# Altium footprint library Transistor.PcbLib: 58 footprints (part 3 of 4)
Each footprint in its own frame and in the unit in brackets; x right, y up, seen from the top. Pads: shape width x height; smd on the part's side, far side on the other; paste and mask are expansions set on the pad; w line width, h text height; cw(c..) or ccw(c..) is an arc to the next point about the centre after c.
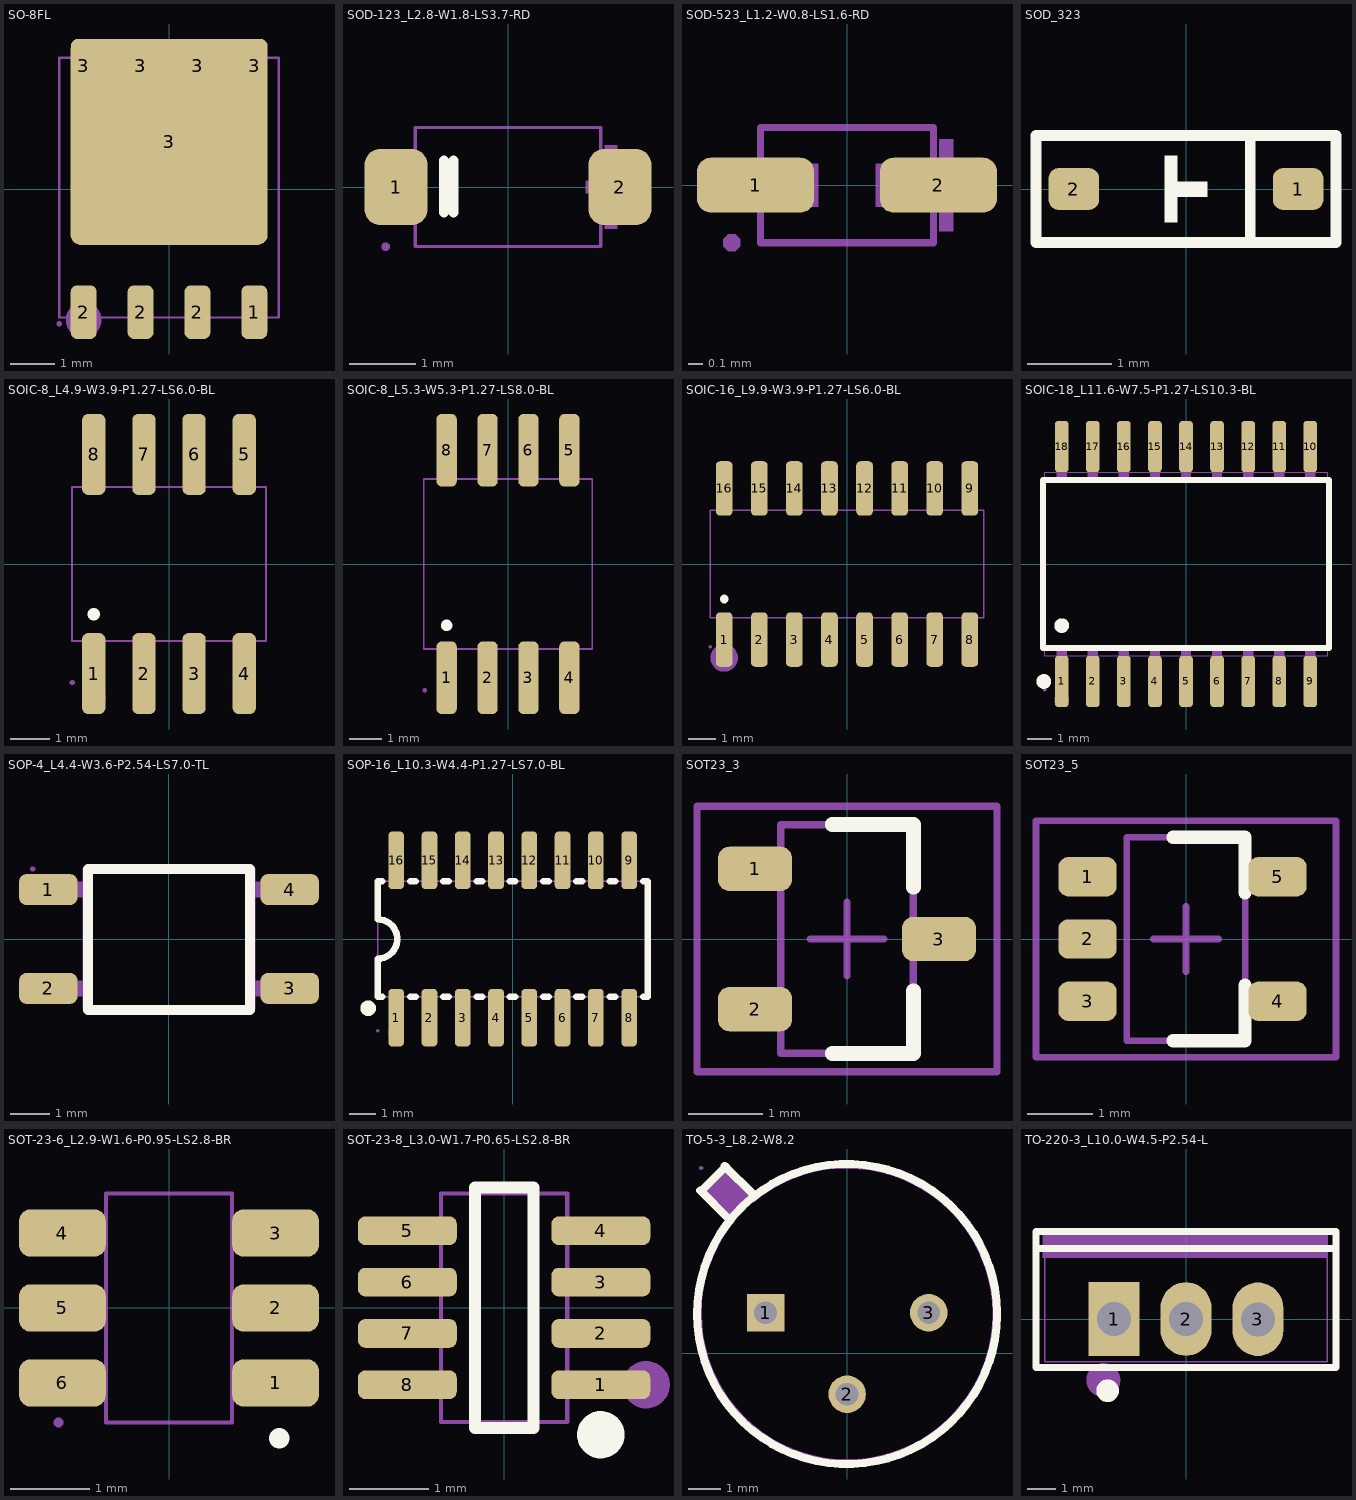
[diagram p2: the footprints below, top view; thin cyan lines are the x and y axes]

## SO-8FL [mm]
pads (9):
  rrect50% 0.58x1.2 smd mask+0.051: 1(1.903,-2.75) 2(-1.907,-2.75) 2(-0.637,-2.75) 2(0.633,-2.75) 3(-1.902,2.75) 3(-0.632,2.75) 3(0.638,2.75) 3(1.907,2.75)
  rrect10% 4.4x4.6 smd mask+0.051: 3(0,1.05)
Mechanical 6:
  circle w0.4: c-1.907,-2.921 r0.2
Mechanical 15:
  region: -2.393,-3.01 -2.393,-2.985 -2.428,-2.95 -2.477,-2.95 -2.512,-2.985 -2.512,-3.01 -2.512,-3.035 -2.477,-3.07 -2.428,-3.07 -2.393,-3.035 -2.393,-3.01
  region: -2.002,2.43 1.998,2.43 1.998,-1.07 -2.002,-1.07
  region: 1.707,3.075 2.107,3.075 2.107,2.425 1.707,2.425
  region: 0.438,3.075 0.838,3.075 0.838,2.425 0.438,2.425
  region: -0.832,3.075 -0.432,3.075 -0.432,2.425 -0.832,2.425
  region: -2.102,3.075 -1.702,3.075 -1.702,2.425 -2.102,2.425
  region: 2.103,-3.01 1.703,-3.01 1.703,-2.36 2.103,-2.36
  region: 0.833,-3.01 0.433,-3.01 0.433,-2.36 0.833,-2.36
  region: -0.437,-3.01 -0.837,-3.01 -0.837,-2.36 -0.437,-2.36
  region: -1.707,-3.01 -2.107,-3.01 -2.107,-2.36 -1.707,-2.36
  lines w0.051: -2.452,-2.87 2.448,-2.87 2.448,2.93 -2.452,2.93 -2.452,-2.87
3D body "dfn2.step": height 0.99, standoff 0.03, extent -2.452,-2.995 2.548,3.055

## SOD-123_L2.8-W1.8-LS3.7-RD [mm]
pads (2):
  rrect50% 0.95x1.15 smd: 1(-1.692,0) 2(1.692,0)
Top Overlay:
  lines w0.152: -0.97,-0.381 -0.97,0.404 ; -0.827,-0.381 -0.827,0.404
Mechanical 6:
  region: 1.651,0.635 1.651,-0.629 1.461,-0.629 1.461,0.635
  region: 1.935,0.098 1.935,-0.092 1.177,-0.092 1.177,0.098
  region: -2.03,0.095 -2.03,-0.095 -1.272,-0.095 -1.272,0.095
Mechanical 15:
  region: 1.851,-0.465 1.851,0.465 1.301,0.465 1.301,-0.465
  region: -1.851,-0.465 -1.851,0.465 -1.301,0.465 -1.301,-0.465
  region: -1.79,-0.9 -1.79,-0.875 -1.826,-0.84 -1.875,-0.84 -1.91,-0.875 -1.91,-0.9 -1.91,-0.925 -1.875,-0.96 -1.826,-0.96 -1.79,-0.925 -1.79,-0.9
  lines w0.051: -1.4,-0.9 1.4,-0.9 1.4,0.9 -1.4,0.9 -1.4,-0.9

## SOD-523_L1.2-W0.8-LS1.6-RD [mil]
pads (2):
  rrect50% 32x15 smd mask+2: 1(-25,0) 2(25,0)
Mechanical 6:
  region: -34.92,2.17 -34.92,-1.61 -19.8,-1.61 -19.8,2.17
  region: 34.65,1.89 34.65,-1.89 19.53,-1.89 19.53,1.89
  region: 28.98,12.6 28.98,-12.6 25.2,-12.6 25.2,12.6
Mechanical 15:
  region: -31.5,-5.91 -31.5,5.91 -7.87,5.91 -7.87,-5.91
  region: 31.5,-5.91 31.5,5.91 7.87,5.91 7.87,-5.91
  region: -29.13,-15.75 -29.13,-14.77 -30.52,-13.39 -32.47,-13.39 -33.86,-14.77 -33.86,-15.75 -33.86,-16.73 -32.47,-18.11 -30.52,-18.11 -29.13,-16.73 -29.13,-15.75
  lines w2: -23.62,-15.75 -23.62,15.75 23.62,15.75 23.62,-15.75 -23.62,-15.75
3D body "SOD-523.step": height 29.92, standoff 0, extent -33.46,-17.72 33.46,17.72

## SOD_323 [mm] "SOD_323"
height 4.3
pads (2):
  rrect50% 0.6x0.5 smd: 1(1.329,0) 2(-1.329,0)
Top Overlay:
  region: -0.254,0.394 -0.102,0.394 -0.102,0.089 0.254,0.089 0.254,-0.089 -0.102,-0.089 -0.102,-0.394 -0.254,-0.394
  lines w0.127: 0.762,-0.635 0.762,0.635 ; -1.778,-0.635 1.778,-0.635 1.778,0.635 -1.778,0.635 -1.778,-0.635
3D body "SW3dPS-SOD-323.STEP": height 1.15, standoff 0.05, extent -1.3,-0.675 1.3,0.675

## SOIC-8_L4.9-W3.9-P1.27-LS6.0-BL [mm]
pads (8):
  rrect50% 0.588x2.045 smd paste+0 mask+0.051: 1(-1.905,-2.772) 2(-0.635,-2.772) 3(0.635,-2.772) 4(1.905,-2.772) 5(1.905,2.772) 6(0.635,2.772) 7(-0.635,2.772) 8(-1.905,2.772)
Top Overlay:
  circle w0.3: c-1.905,-1.27 r0.007
Mechanical 6:
  circle w0.3: c-1.905,-3.4 r0.15
Mechanical 15:
  region: -2.39,-3 -2.39,-2.975 -2.425,-2.94 -2.475,-2.94 -2.51,-2.975 -2.51,-3 -2.51,-3.025 -2.475,-3.06 -2.425,-3.06 -2.39,-3.025 -2.39,-3
  region: -2.115,-3 -2.115,-2.165 -1.695,-2.165 -1.695,-3
  region: -2.115,-2.175 -2.115,-1.94 -1.695,-1.94 -1.695,-2.175
  region: -0.845,-3 -0.845,-2.165 -0.425,-2.165 -0.425,-3
  region: -0.845,-2.175 -0.845,-1.94 -0.425,-1.94 -0.425,-2.175
  region: 0.425,-3 0.425,-2.165 0.845,-2.165 0.845,-3
  region: 0.425,-2.175 0.425,-1.94 0.845,-1.94 0.845,-2.175
  region: 1.695,-3 1.695,-2.165 2.115,-2.165 2.115,-3
  region: 1.695,-2.175 1.695,-1.94 2.115,-1.94 2.115,-2.175
  region: -2.115,3 -2.115,2.165 -1.695,2.165 -1.695,3
  region: -2.115,2.175 -2.115,1.94 -1.695,1.94 -1.695,2.175
  region: -0.845,3 -0.845,2.165 -0.425,2.165 -0.425,3
  region: -0.845,2.175 -0.845,1.94 -0.425,1.94 -0.425,2.175
  region: 0.425,3 0.425,2.165 0.845,2.165 0.845,3
  region: 0.425,2.175 0.425,1.94 0.845,1.94 0.845,2.175
  region: 1.695,3 1.695,2.165 2.115,2.165 2.115,3
  region: 1.695,2.175 1.695,1.94 2.115,1.94 2.115,2.175
  lines w0.051: -2.45,-1.95 -2.45,1.95 2.45,1.95 2.45,-1.95 -2.45,-1.95
3D body "SOIC8.STEP": height 1.5, standoff 0, extent -2.45,-2.95 2.45,2.95

## SOIC-8_L5.3-W5.3-P1.27-LS8.0-BL [mm]
pads (8):
  rrect50% 0.63x2.25 smd: 1(-1.905,-3.53) 2(-0.635,-3.53) 3(0.635,-3.53) 4(1.905,-3.53) 5(1.905,3.53) 6(0.635,3.53) 7(-0.635,3.53) 8(-1.905,3.53)
Top Overlay:
  circle w0.3: c-1.905,-1.905 r0.027
Mechanical 6:
  circle w0.3: c-1.905,-4.35 r0.15
Mechanical 15:
  region: 1.68,3.31 1.68,2.595 2.13,2.595 2.13,3.31
  region: 1.68,3.95 1.68,3.3 2.13,3.3 2.13,3.95
  region: 0.41,3.31 0.41,2.595 0.86,2.595 0.86,3.31
  region: 0.41,3.95 0.41,3.3 0.86,3.3 0.86,3.95
  region: -0.86,3.31 -0.86,2.595 -0.41,2.595 -0.41,3.31
  region: -0.86,3.95 -0.86,3.3 -0.41,3.3 -0.41,3.95
  region: -2.13,3.31 -2.13,2.595 -1.68,2.595 -1.68,3.31
  region: -2.13,3.95 -2.13,3.3 -1.68,3.3 -1.68,3.95
  region: 1.68,-3.31 1.68,-2.595 2.13,-2.595 2.13,-3.31
  region: 1.68,-3.95 1.68,-3.3 2.13,-3.3 2.13,-3.95
  region: 0.41,-3.31 0.41,-2.595 0.86,-2.595 0.86,-3.31
  region: 0.41,-3.95 0.41,-3.3 0.86,-3.3 0.86,-3.95
  region: -0.86,-3.31 -0.86,-2.595 -0.41,-2.595 -0.41,-3.31
  region: -0.86,-3.95 -0.86,-3.3 -0.41,-3.3 -0.41,-3.95
  region: -2.13,-3.31 -2.13,-2.595 -1.68,-2.595 -1.68,-3.31
  region: -2.13,-3.95 -2.13,-3.3 -1.68,-3.3 -1.68,-3.95
  region: -2.525,-3.92 -2.525,-3.895 -2.56,-3.86 -2.61,-3.86 -2.645,-3.895 -2.645,-3.92 -2.645,-3.945 -2.61,-3.98 -2.56,-3.98 -2.525,-3.945 -2.525,-3.92
  lines w0.051: -2.615,-2.64 2.615,-2.64 2.615,2.64 -2.615,2.64 -2.615,-2.64

## SOIC-16_L9.9-W3.9-P1.27-LS6.0-BL [mm]
pads (16):
  rrect50% 0.602x1.971 smd: 1(-4.445,-2.736) 2(-3.175,-2.736) 3(-1.905,-2.736) 4(-0.635,-2.736) 5(0.635,-2.736) 6(1.905,-2.736) 7(3.175,-2.736) 8(4.445,-2.736) 9(4.445,2.736) 10(3.175,2.736) 11(1.905,2.736) 12(0.635,2.736) 13(-0.635,2.736) 14(-1.905,2.736) 15(-3.175,2.736) 16(-4.445,2.736)
Top Overlay:
  circle w0.3: c-4.445,-1.27 r0.007
Mechanical 6:
  circle w0.5: c-4.445,-3.4 r0.25
Mechanical 15:
  drawing of 37 lines, arcs and shapes, not listed

## SOIC-18_L11.6-W7.5-P1.27-LS10.3-BL [mm]
pads (18):
  rrect50% 0.56x2.1 smd paste+0 mask+0.051: 1(-5.08,-4.8) 2(-3.81,-4.8) 3(-2.54,-4.8) 4(-1.27,-4.8) 5(0,-4.8) 6(1.27,-4.8) 7(2.54,-4.8) 8(3.81,-4.8) 9(5.08,-4.8) 10(5.08,4.8) 11(3.81,4.8) 12(2.54,4.8) 13(1.27,4.8) 14(0,4.8) 15(-1.27,4.8) 16(-2.54,4.8) 17(-3.81,4.8) 18(-5.08,4.8)
Top Overlay:
  circle w0.3: c-5.812,-4.8 r0.15
  circle w0.3: c-5.08,-2.519 r0.15
  lines w0.254: -5.842,-3.429 5.842,-3.429 5.842,3.429 -5.842,3.429 -5.842,-3.429
Mechanical 6:
  circle w0.3: c-5.08,-5.55 r0.15
Mechanical 15:
  drawing of 41 lines, arcs and shapes, not listed

## SOP-4_L4.4-W3.6-P2.54-LS7.0-TL [mm]
pads (4):
  rrect50% 1.508x0.8 smd paste+0 mask+0.051: 1(-3.1,1.27) 2(-3.1,-1.27) 3(3.1,-1.27) 4(3.1,1.27)
Top Overlay:
  lines w0.254: -2.08,-1.82 2.08,-1.82 2.08,1.8 -2.08,1.8 -2.08,-1.82
Mechanical 6:
  circle w0.254: c-3.5,1.28 r0.127
Mechanical 15:
  region: -3.44,1.8 -3.44,1.825 -3.475,1.86 -3.525,1.86 -3.56,1.825 -3.56,1.8 -3.56,1.775 -3.525,1.74 -3.475,1.74 -3.44,1.775 -3.44,1.8
  region: -3.01,-1.47 -3.01,-1.07 -2.19,-1.07 -2.19,-1.47
  region: -3.5,-1.47 -3.5,-1.07 -3,-1.07 -3,-1.47
  region: -3.01,1.07 -3.01,1.47 -2.19,1.47 -2.19,1.07
  region: -3.5,1.07 -3.5,1.47 -3,1.47 -3,1.07
  region: 2.19,1.07 2.19,1.47 3.01,1.47 3.01,1.07
  region: 3,1.07 3,1.47 3.5,1.47 3.5,1.07
  region: 2.19,-1.47 2.19,-1.07 3.01,-1.07 3.01,-1.47
  region: 3,-1.47 3,-1.07 3.5,-1.07 3.5,-1.47
  lines w0.051: -2.2,-1.8 2.2,-1.8 2.2,1.8 -2.2,1.8 -2.2,-1.8

## SOP-16_L10.3-W4.4-P1.27-LS7.0-BL [mm]
pads (16):
  rrect50% 0.6x2.2 smd paste+0 mask+0.051: 1(-4.445,-3) 2(-3.175,-3) 3(-1.905,-3) 4(-0.635,-3) 5(0.635,-3) 6(1.905,-3) 7(3.175,-3) 8(4.445,-3) 9(4.445,3) 10(3.175,3) 11(1.905,3) 12(0.635,3) 13(-0.635,3) 14(-1.905,3) 15(-3.175,3) 16(-4.445,3)
Top Overlay:
  lines w0.254: -4.976,-2.2 -5.15,-2.2 -5.15,-0.75 ccw(c-5.15,-0.001) -5.15,0.75 -5.15,2.2 -4.976,2.2 ; -3.914,-2.2 -3.706,-2.2 ; -3.914,2.2 -3.706,2.2 ; -2.644,-2.2 -2.436,-2.2 ; -2.644,2.2 -2.436,2.2 ; -1.374,-2.2 -1.166,-2.2 ; -1.374,2.2 -1.166,2.2 ; -0.104,-2.2 0.104,-2.2 ; -0.104,2.2 0.104,2.2 ; 1.166,-2.2 1.374,-2.2 ; 1.166,2.2 1.374,2.2 ; 2.436,-2.2 2.644,-2.2 ; 2.436,2.2 2.644,2.2 ; 3.706,-2.2 3.914,-2.2 ; 3.706,2.2 3.914,2.2 ; 4.976,-2.2 5.15,-2.2 5.15,2.2 4.976,2.2
  lines w0.3: -5.513,-2.492 ccw(c-5.512,-2.642) -5.51,-2.492
Mechanical 6:
  circle w0.3: c-4.445,-3.582 r0.15
Mechanical 15:
  drawing of 37 lines, arcs and shapes, not listed

## SOT23_3 [mm] "SOT23, 3-Leads, Body 3.1x3.0mm (max), Pitch 0.95mm, IPC Medium Density"
height 1.2
pads (3):
  rrect50% 1x0.6 smd: 1(-1.246,0.95) 2(-1.246,-0.95) 3(1.246,0)
Top Overlay:
  lines w0.2: -0.2,-1.55 0.9,-1.55 0.9,-0.7 ; -0.2,1.55 0.9,1.55 0.9,0.7
Mechanical 13:
  lines w0.1: -0.9,-1.55 -0.9,1.55 0.9,1.55 0.9,-1.55 -0.9,-1.55
Mechanical 15:
  lines w0.1: -0.5,0 0.5,0 ; 0,-0.5 0,0.5 ; -2.032,-1.8 -2.032,1.8 2.032,1.8 2.032,-1.8 -2.032,-1.8
3D body "SOT-23-3.stp": height 1.2, standoff 0, extent -1.298,-1.45 1.502,1.45

## SOT23_5 [mm] "SOT23_5"
pads (5):
  rrect50% 0.889x0.6 smd: 1(-1.5,0.95) 2(-1.5,0) 3(-1.5,-0.95) 4(1.396,-0.95) 5(1.396,0.95)
Top Overlay:
  lines w0.2: -0.2,-1.55 0.9,-1.55 0.9,-0.7 ; -0.2,1.55 0.9,1.55 0.9,0.7
Mechanical 13:
  lines w0.1: -0.9,-1.55 0.9,-1.55 0.9,1.55 -0.9,1.55 -0.9,-1.55
Mechanical 15:
  lines w0.1: -0.5,0 0.5,0 ; 0,-0.5 0,0.5 ; -2.286,-1.8 2.286,-1.8 2.286,1.8 -2.286,1.8 -2.286,-1.8
3D body "PCB1.stp": height 1.2, standoff 0, extent -1.476,-1.452 1.324,1.448

## SOT-23-6_L2.9-W1.6-P0.95-LS2.8-BR [mm]
pads (6):
  rrect50% 1.1x0.6 smd paste+0 mask+0.051: 1(1.35,-0.95) 2(1.35,0) 3(1.35,0.95) 4(-1.35,0.95) 5(-1.35,0) 6(-1.35,-0.95)
Top Overlay:
  circle w0.254: c1.397,-1.651 r0.001
Mechanical 6:
  circle w0.2: c1.4,-0.95 r0.1
Mechanical 15:
  region: 0.935,1.165 0.935,0.735 0.79,0.735 0.79,1.165
  region: 0.935,0.215 0.935,-0.215 0.79,-0.215 0.79,0.215
  region: 0.935,-0.735 0.935,-1.165 0.79,-1.165 0.79,-0.735
  region: -0.935,-1.165 -0.935,-0.735 -0.79,-0.735 -0.79,-1.165
  region: -0.935,-0.215 -0.935,0.215 -0.79,0.215 -0.79,-0.215
  region: 0.925,-1.165 0.925,-0.735 1.4,-0.735 1.4,-1.165
  region: 0.925,-0.215 0.925,0.215 1.4,0.215 1.4,-0.215
  region: 0.925,0.735 0.925,1.165 1.4,1.165 1.4,0.735
  region: -0.935,0.735 -0.935,1.165 -0.79,1.165 -0.79,0.735
  region: -0.925,0.735 -0.925,1.165 -1.4,1.165 -1.4,0.735
  region: -0.925,-0.215 -0.925,0.215 -1.4,0.215 -1.4,-0.215
  region: -0.925,-1.165 -0.925,-0.735 -1.4,-0.735 -1.4,-1.165
  region: -1.34,-1.45 -1.34,-1.425 -1.375,-1.39 -1.425,-1.39 -1.46,-1.425 -1.46,-1.45 -1.46,-1.475 -1.425,-1.51 -1.375,-1.51 -1.34,-1.475 -1.34,-1.45
  lines w0.051: -0.8,-1.45 0.8,-1.45 0.8,1.45 -0.8,1.45 -0.8,-1.45
3D body "sot-23-6.stp": height 1.07, standoff -0.04, extent -1.422,-1.461 1.422,1.461

## SOT-23-8_L3.0-W1.7-P0.65-LS2.8-BR [mm]
pads (8):
  rrect50% 1.252x0.364 smd paste+0 mask+0.051: 1(1.226,-0.975) 2(1.226,-0.325) 3(1.226,0.325) 4(1.226,0.975) 5(-1.226,0.975) 6(-1.226,0.325) 7(-1.226,-0.325) 8(-1.226,-0.975)
Top Overlay:
  circle w0.3: c1.226,-1.609 r0.15
  lines w0.152: -0.371,-1.526 0.371,-1.526 0.371,1.526 -0.371,1.526 -0.371,-1.526
Mechanical 6:
  circle w0.3: c1.8,-0.975 r0.15
Mechanical 15:
  region: 1.46,-1.45 1.46,-1.425 1.425,-1.39 1.375,-1.39 1.34,-1.425 1.34,-1.45 1.34,-1.475 1.375,-1.51 1.425,-1.51 1.46,-1.475 1.46,-1.45
  region: 1.4,-1.125 0.95,-1.125 0.95,-0.825 1.4,-0.825
  region: 0.96,-1.125 0.79,-1.125 0.79,-0.825 0.96,-0.825
  region: 1.4,-0.475 0.95,-0.475 0.95,-0.175 1.4,-0.175
  region: 0.96,-0.475 0.79,-0.475 0.79,-0.175 0.96,-0.175
  region: 1.4,0.175 0.95,0.175 0.95,0.475 1.4,0.475
  region: 0.96,0.175 0.79,0.175 0.79,0.475 0.96,0.475
  region: 1.4,0.825 0.95,0.825 0.95,1.125 1.4,1.125
  region: 0.96,0.825 0.79,0.825 0.79,1.125 0.96,1.125
  region: -1.4,-1.125 -0.95,-1.125 -0.95,-0.825 -1.4,-0.825
  region: -0.96,-1.125 -0.79,-1.125 -0.79,-0.825 -0.96,-0.825
  region: -1.4,-0.475 -0.95,-0.475 -0.95,-0.175 -1.4,-0.175
  region: -0.96,-0.475 -0.79,-0.475 -0.79,-0.175 -0.96,-0.175
  region: -1.4,0.175 -0.95,0.175 -0.95,0.475 -1.4,0.475
  region: -0.96,0.175 -0.79,0.175 -0.79,0.475 -0.96,0.475
  region: -1.4,0.825 -0.95,0.825 -0.95,1.125 -1.4,1.125
  region: -0.96,0.825 -0.79,0.825 -0.79,1.125 -0.96,1.125
  lines w0.051: -0.8,-1.45 0.8,-1.45 0.8,1.45 -0.8,1.45 -0.8,-1.45

## TO-5-3_L8.2-W8.2 [mil]
pads (3):
  rect 46x46 hole 28: 1(-100,50)
  round 46 hole 28: 2(0,-50) 3(100,50)
Top Overlay:
  lines w10: -180.1,200.1 -145.2,164.8 ; -178.74,199.61 -148.94,229.51 ; -150.3,230 -115,195 ; 183.8,46.8 cw(c-0.19,48.4) 183.8,50
Mechanical 6:
  region: -174.96,200.04 -172.99,202.01 -147.01,227.99 -146.22,227.99 -114.33,196.1 -114.33,195.71 -144.25,165.79
Mechanical 15:
  region: 108.86,50 108.85,51.75 107.49,54.99 105,57.46 101.75,58.8 98.24,58.8 95,57.46 92.51,54.99 91.15,51.75 91.14,50 91.15,48.24 92.51,45.01 95,42.54 98.25,41.2 101.76,41.2 105,42.54 107.49,45.01 108.85,48.25 108.86,50
  region: 8.86,-50 8.85,-48.25 7.49,-45.01 5,-42.54 1.75,-41.2 -1.76,-41.2 -5,-42.54 -7.49,-45.01 -8.85,-48.25 -8.86,-50 -8.85,-51.76 -7.49,-54.99 -5,-57.46 -1.75,-58.8 1.76,-58.8 5,-57.46 7.49,-54.99 8.85,-51.75 8.86,-50
  region: -91.14,50 -91.15,51.75 -92.51,54.99 -95,57.46 -98.25,58.8 -101.76,58.8 -105,57.46 -107.49,54.99 -108.85,51.75 -108.86,50 -108.85,48.24 -107.49,45.01 -105,42.54 -101.75,41.2 -98.24,41.2 -95,42.54 -92.51,45.01 -91.15,48.25 -91.14,50
  region: -176.77,227.56 -176.77,228.54 -178.16,229.92 -180.11,229.92 -181.5,228.54 -181.5,227.56 -181.5,226.58 -180.11,225.19 -178.15,225.19 -176.77,226.58 -176.77,227.56
  lines w2: -179.13,48.42 -179.13,50 -179.13,49.61 -179.13,64.7 cw(c-0.76,48.16) -138.58,162.6 -155.97,179.99 cw(c-153.28,182.68) -157.09,182.68 cw(c-147.58,182.68) -154.3,189.4 -138.19,205.51 cw(c-138.19,196) -131.47,202.73 -114.96,186.22 cw(c0.3,49.09) -15.16,227.56 0,227.56 1.18,227.56 cw(c0,48.43) 179.13,49.61 179.13,48.42 cw(c0,48.42) 0,-130.71 cw(c0,48.42) -179.13,48.43

## TO-220-3_L10.0-W4.5-P2.54-L [mm]
pads (3):
  rect 1.8x2.6 hole 1.2 mask+0.051: 1(-2.54,0.005)
  oval 1.8x2.6 hole 1.2 mask+0.051: 2(0,0.005)
  oval 1.8x2.6 hole 1.2 copper offset 0,0 mask+0.051: 3(2.54,-0.005)
Top Overlay:
  lines w0.254: -5.3,2.495 5.3,2.495 ; -5.301,-1.704 5.301,-1.704 5.301,3.094 -5.301,3.094 -5.301,3.089 -5.301,-1.704
  lines w0.4: -2.77,-2.33 ccw(c-2.769,-2.53) -2.768,-2.33
Mechanical 6:
  circle w0.6: c-2.921,-2.154 r0.3
  region: -5.06,3.01 -5.06,2.17 4.99,2.17 4.99,3.01
Mechanical 15:
  region: -4.94,3 -4.94,3.025 -4.975,3.06 -5.025,3.06 -5.06,3.025 -5.06,3 -5.06,2.975 -5.025,2.94 -4.975,2.94 -4.94,2.975 -4.94,3
  region: -2.89,-0.32 -2.89,0.33 -2.19,0.33 -2.19,-0.32
  region: -0.35,-0.32 -0.35,0.33 0.35,0.33 0.35,-0.32
  region: 2.19,-0.33 2.19,0.32 2.89,0.32 2.89,-0.33
  lines w0.051: -5,-1.5 -5,3 5,3 5,-1.5 -5,-1.5